# Altium footprint library TO-252-3.PcbLib: 1 footprints
Each footprint in its own frame and in the unit in brackets; x right, y up, seen from the top. Pads: shape width x height; smd on the part's side, far side on the other; paste and mask are expansions set on the pad; w line width, h text height; cw(c..) or ccw(c..) is an arc to the next point about the centre after c.
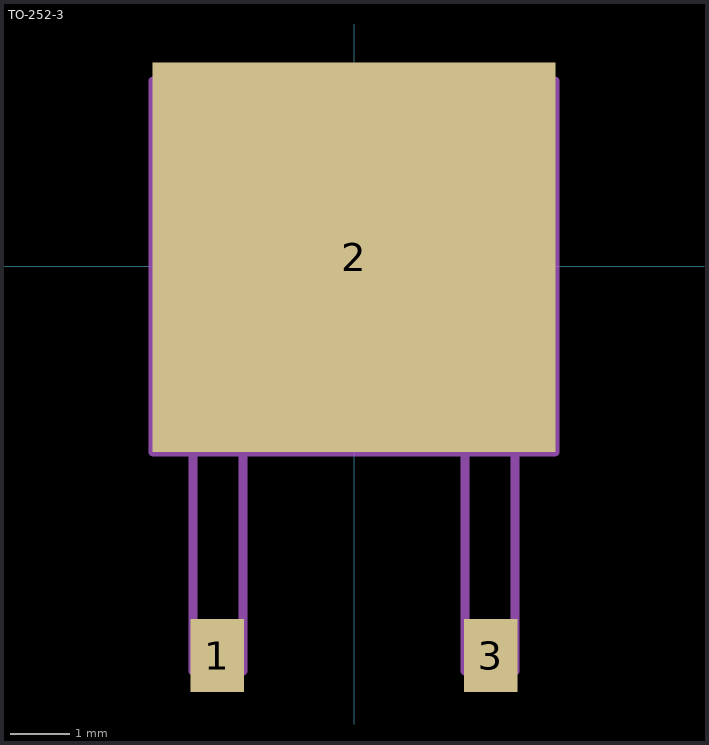
[diagram p0: the footprint, top view; thin cyan lines are the x and y axes]

## TO-252-3 [mil]
pads (3):
  rect 35x48 smd: 1(-90,-256) 3(90,-256)
  rect 265x256 smd: 2(0,6)
Mechanical 4:
  lines w6: -132,-122 -132,122 ; -132,-122 132,-122 ; -132,-122 -132,122 ; -132,-122 132,-122 ; -132,122 132,122 ; -132,122 132,122 ; -106,-266 -73,-266 ; -106,-266 -106,-122 ; -106,-266 -73,-266 ; -106,-266 -106,-122 ; -106,-122 -73,-122 ; -106,-122 -73,-122 ; -73,-266 -73,-122 ; -73,-266 -73,-122 ; 73,-266 106,-266 ; 73,-266 73,-122 ; 73,-266 106,-266 ; 73,-266 73,-122 ; 73,-122 106,-122 ; 73,-122 106,-122 ; 106,-266 106,-122 ; 106,-266 106,-122 ; 132,-122 132,122 ; 132,-122 132,122